# EAGLE library part ESP03 (library connectors)
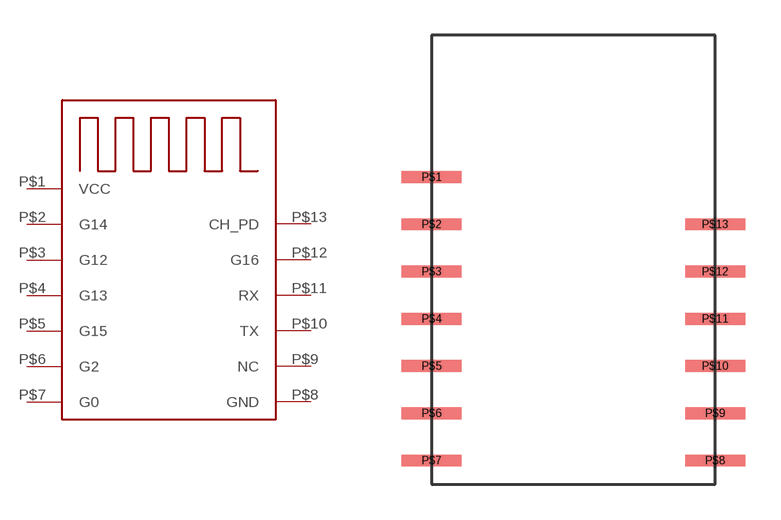
[diagram p1: symbol with the pads of ESP03; footprint ESP03]

Designator prefix -

## ESP03  [ESP03]
P$1  VCC
P$2  G14
P$3  G12
P$4  G13
P$5  G15
P$6  G2
P$7  G0
P$8  GND
P$9  NC
P$10  TX
P$11  RX
P$12  G16
P$13  CH_PD

## Footprint ESP03 (pad centres in mm)
smd 2.54 x 0.5: P$1 0,0; P$2 0,-2; P$3 0,-4; P$4 0,-6; P$5 0,-8; P$6 0,-10; P$7 0,-12; P$8 12,-12; P$9 12,-10; P$10 12,-8; P$11 12,-6; P$12 12,-4; P$13 12,-2